# Altium footprint library PCB1.PcbLib: 38 footprints (part 1 of 3)
Each footprint in its own frame and in the unit in brackets; x right, y up, seen from the top. Pads: shape width x height; smd on the part's side, far side on the other; paste and mask are expansions set on the pad; w line width, h text height; cw(c..) or ccw(c..) is an arc to the next point about the centre after c.
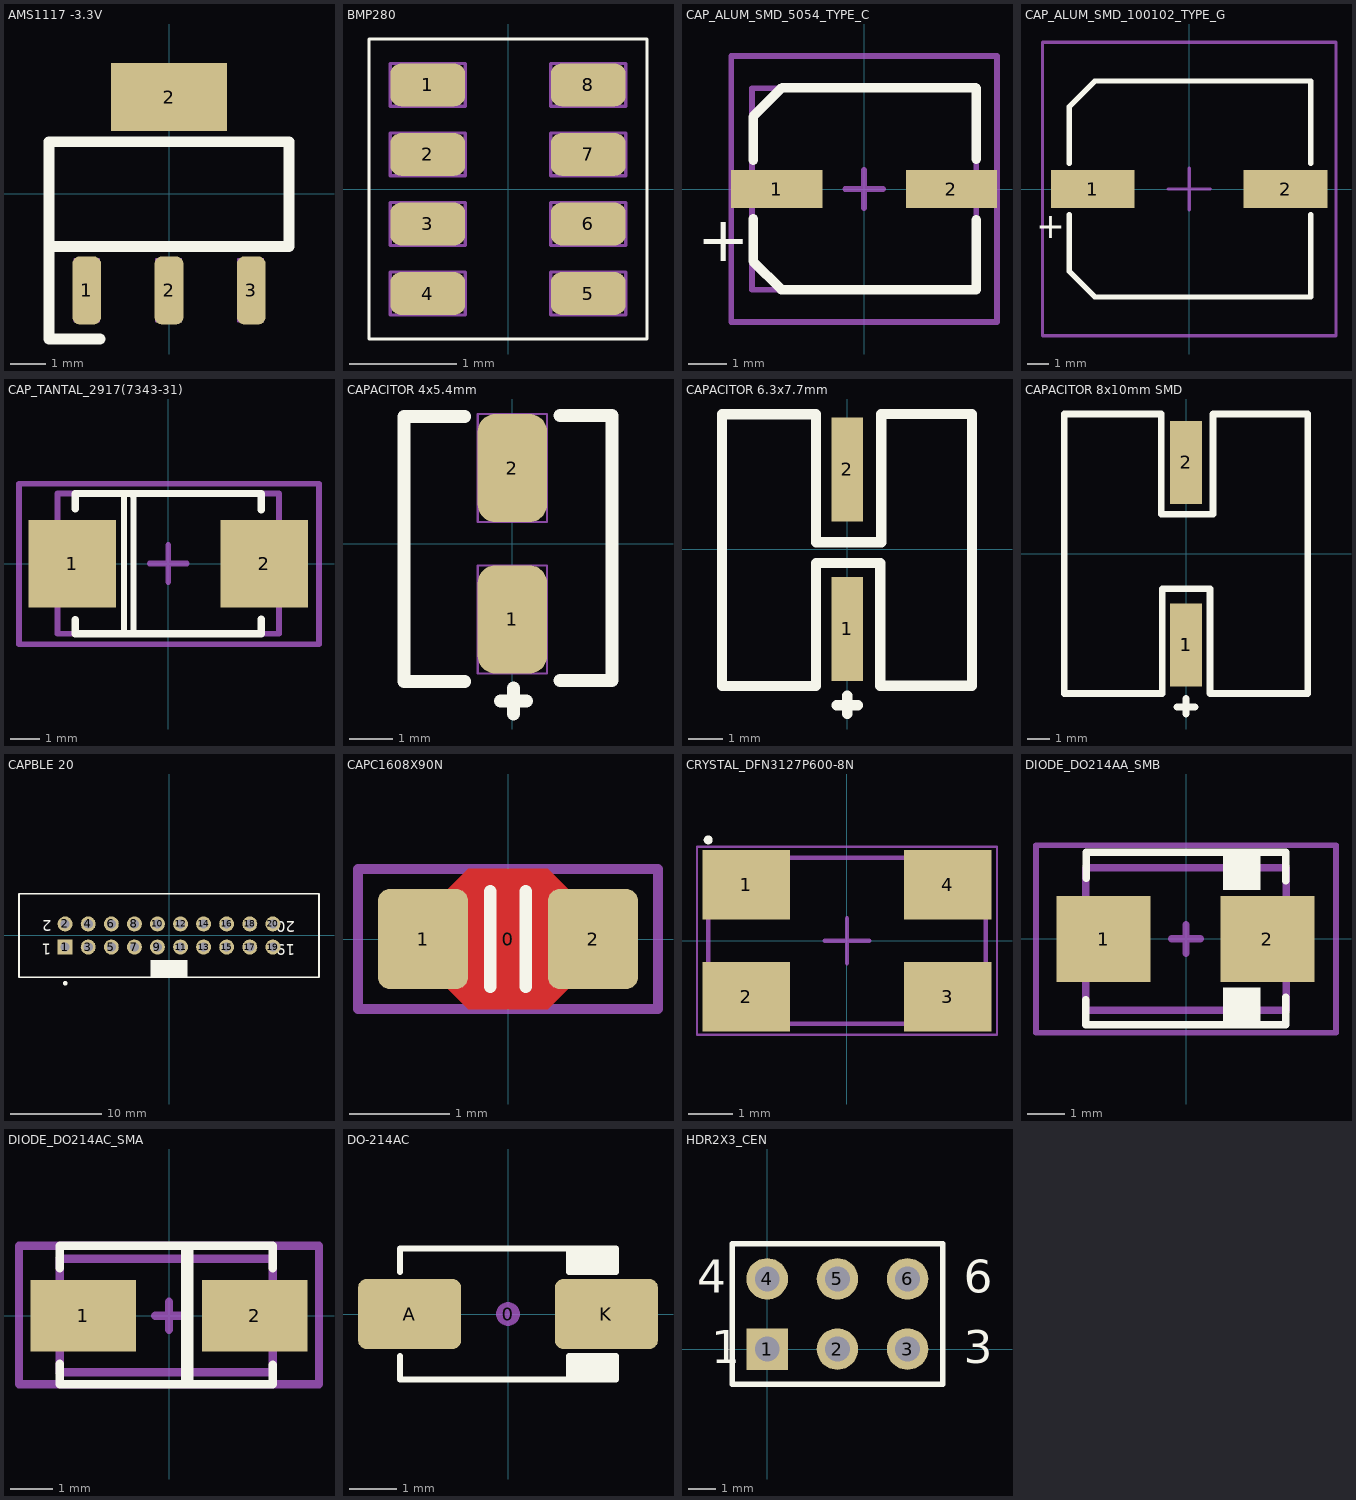
[diagram p0: the footprints below, top view; thin cyan lines are the x and y axes]

## AMS1117 -3.3V [mm]
pads (4):
  rrect50% 0.8x1.9 smd: 1(-2.3,-2.7) 2(0,-2.7) 3(2.3,-2.7)
  rect 3.25x1.9 smd: 2(0,2.7)
Top Overlay:
  lines w0.3: -3.355,-1.5 -3.355,-4.055 -3.353,-4.057 -1.929,-4.057 ; -3.355,-1.472 -3.355,1.452 -0.398,1.452 3.355,1.452 3.355,-1.472 -3.355,-1.472
Mechanical 1:
  lines w0.05: -2.475,-1.825 -1.95,-1.825 -1.95,-3.575 -2.65,-3.575 -2.65,-1.825 -2.3,-1.825 ; -0.185,-1.825 0.34,-1.825 0.34,-3.575 -0.36,-3.575 -0.36,-1.825 -0.01,-1.825 ; 0,3.542 1.4,3.542 1.4,1.832 -1.4,1.832 -1.4,3.543 0.35,3.543 ; 2.105,-1.825 2.63,-1.825 2.63,-3.575 1.93,-3.575 1.93,-1.825 2.28,-1.825
3D body "AMS1117-3.3.stp": height 1.8, standoff 0, extent -3.252,-3.5 3.253,3.5

## BMP280 [mm]
pads (8):
  rrect50% 0.7x0.4 smd: 1(-0.75,0.975) 2(-0.75,0.325) 3(-0.75,-0.325) 4(-0.75,-0.975) 5(0.75,-0.975) 6(0.75,-0.325) 7(0.75,0.325) 8(0.75,0.975)
Top Overlay:
  lines w0.03: -1.3,-1.4 1.3,-1.4 1.3,1.3 1.3,1.404 -1.3,1.404 -1.3,1.3 -1.3,-1.4
Mechanical 1:
  lines w0.03: 0.4,-1.175 0.4,-0.775 ; 0.4,-1.175 1.1,-1.175 ; 0.4,-1.175 0.4,-0.775 ; 0.4,-1.175 1.1,-1.175 ; 0.4,-0.775 1.1,-0.775 ; 0.4,-0.775 1.1,-0.775 ; 1.1,-1.175 1.1,-0.775 ; 1.1,-1.175 1.1,-0.775 ; -1.1,-1.175 -0.4,-1.175 -0.4,-0.775 -1.1,-0.775 -1.1,-1.175 ; -1.1,-0.525 -0.4,-0.525 -0.4,-0.125 -1.1,-0.125 -1.1,-0.525 ; -1.1,0.125 -0.4,0.125 -0.4,0.525 -1.1,0.525 -1.1,0.125 ; -1.1,0.775 -0.4,0.775 -0.4,1.175 -1.1,1.175 -1.1,0.775 ; 0.4,-0.525 0.4,-0.125 1.1,-0.125 1.1,-0.525 0.4,-0.525 ; 0.4,0.125 0.4,0.525 1.1,0.525 1.1,0.125 0.4,0.125 ; 0.4,0.775 0.4,1.175 1.1,1.175 1.1,0.775 0.4,0.775
3D body "bmp280.stp": height 1, standoff 0, extent -1,-1.25 1,1.25

## CAP_ALUM_SMD_5054_TYPE_C [mm]
pads (2):
  rect 2.4x1 smd: 1(-2.3,0) 2(2.3,0)
Top Overlay:
  lines w0.254: -2.921,-0.787 -2.921,-1.905 -2.176,-2.65 2.95,-2.65 2.95,-0.813 ; -2.921,0.762 -2.921,1.905 -2.159,2.667 2.932,2.667 ; 2.95,0.787 2.95,2.65
  text "+" at -4.4,-1.9 h1.2
Top 3D Body:
  lines w0.15: -0.5,0 0.5,0 ; 0,-0.5 0,0.5 ; -2.95,-2.65 2.95,-2.65 2.95,2.65 -2.95,2.65 -2.95,-2.65
Top Courtyard:
  lines w0.15: -3.5,-3.5 -3.5,3.5 3.5,3.5 3.5,-3.5 -3.5,-3.5
  text ".Designator" at -1,-0.6 h1.2
3D body "User Library-ALU-C.STEP": height 5.41, standoff 0, extent -2.95,-2.65 2.95,2.65

## CAP_ALUM_SMD_100102_TYPE_G [mm]
pads (2):
  rect 4x1.8 smd: 1(-4.6,0) 2(4.6,0)
Top Overlay:
  lines w0.254: -5.715,-1.219 -5.715,-3.937 -4.502,-5.15 5.8,-5.15 5.8,-1.219 ; -5.715,1.219 -5.715,3.937 -4.502,5.15 5.8,5.15 5.8,1.219
  text "+" at -7.308,-2.349 h1.2
Top 3D Body:
  lines w0.15: -1,0 1,0 ; 0,-1 0,1
Top Courtyard:
  lines w0.15: -7,-7 7,-7 7,7 -7,7 -7,-7
  text ".Designator" at -3.6,-0.6 h1.2
3D body "User Library-ALU-G.STEP": height 10.2, standoff 0, extent -5.8,-5.15 5.8,5.15

## CAP_TANTAL_2917(7343-31) [mm] "Chip capacitor, Body 6.0x3.2mm, IPC High Density"
height 0.9
pads (2):
  rect 3x3 smd: 1(-3.3,0) 2(3.3,0)
Top Overlay:
  lines w0.2: -1.525,-2.413 -1.525,2.413 ; -1.2,-2.375 -1.2,2.375
  lines w0.25: -3.2,-1.93 -3.2,-2.413 3.2,-2.413 3.2,-1.905 ; -3.2,1.88 -3.2,2.413 3.2,2.413 3.2,1.854 ; -1.25,2.375 -1.2,2.375
Top 3D Body:
  lines w0.2: -0.635,0 0.635,0 ; 0,-0.635 0,0.635 ; -3.81,-2.413 -3.81,2.413 3.81,2.413 3.81,-2.413 -3.81,-2.413
Top Courtyard:
  lines w0.2: -5.131,-2.769 -5.131,2.743 5.182,2.743 5.182,-2.769 -5.131,-2.769
  text ".Designator" at -2.819,-0.914 h1.2
3D body "User Library-CAP_TANT_7343-31.step": height 3.1, standoff 0, extent -3.8,-2.3 3.8,2.3

## CAPACITOR 4x5.4mm [mm]
pads (2):
  rrect50% 1.6x2.5 smd: 1(0,-1.75) 2(0,1.75)
Top Overlay:
  lines w0.3: -1.1,-3.189 -2.5,-3.189 -2.5,2.945 -1.1,2.945 ; -0.273,-3.637 0.327,-3.637 ; 0.027,-3.937 0.027,-3.337 ; 1.1,-3.164 2.3,-3.164 2.3,2.968 1.1,2.968
Mechanical 1:
  lines w0.05: -0.8,-3 -0.8,-0.5 0.8,-0.5 0.8,-3 -0.8,-3 ; -0.8,0.5 0.8,0.5 0.8,3 -0.8,3 -0.8,0.5
3D body "EEEFP1E100AR.stp": height 5.8, standoff 0, extent -2.25,-2.5 2.05,2.5

## CAPACITOR 6.3x7.7mm [mm]
pads (2):
  rect 0.9x3 smd: 1(0,-2.3) 2(0,2.3)
Top Overlay:
  lines w0.3: -0.3,-4.5 0.3,-4.5 ; 0,-4.755 0,-4.233 ; 0,-4.5 0,-4.3 ; -3.612,-3.948 -0.9,-3.948 -0.9,-0.5 -0.9,-0.399 -0.899,-0.4 0.957,-0.4 0.957,-3.945 3.6,-3.945 3.6,3.9 0.978,3.9 0.978,0.2 -0.9,0.2 -0.9,3.898 -3.612,3.898 -3.612,-3.948
3D body "User Library-User Library-CAP_Al_SMD_6_3x7_7mm.STEP": height 7.7, standoff 0, extent -3.3,-3.65 3.3,3.65

## CAPACITOR 8x10mm SMD [mm]
pads (3):
  rect 1.4x3.7 smd: 1(0,-4.05) 1(0,-4.05) 2(0,4.05)
Top Overlay:
  lines w0.3: -0.4,-6.8 0.4,-6.8 ; 0,-7.113 0,-6.428 ; 0,-6.8 0,-6.6 ; -5.4,-6.2 -1.053,-6.2 -1.053,-2.403 -1.054,-2.402 -1.054,-1.55 1.071,-1.55 1.071,-6.2 5.4,-6.2 5.4,6.2 1.2,6.2 1.2,1.75 -1.1,1.75 -1.1,6.2 -5.4,6.2 -5.4,-6.2
3D body "EEE1EA331AP.stp": height 10.3, standoff 0.1, extent -5.15,-5.85 5.15,5.85

## CAPBLE 20 [mm]
height 2.54
pads (20):
  rect 1.65x1.65 hole 1: 1(-11.43,-1.27)
  round 1.65 hole 1: 2(-11.43,1.27) 3(-8.89,-1.27) 4(-8.89,1.27) 5(-6.35,-1.27) 6(-6.35,1.27) 7(-3.81,-1.27) 8(-3.81,1.27) 9(-1.27,-1.27) 10(-1.27,1.27) 11(1.27,-1.27) 12(1.27,1.27) 13(3.81,-1.27) 14(3.81,1.27) 15(6.35,-1.27) 16(6.35,1.27) 17(8.89,-1.27) 18(8.89,1.27) 19(11.43,-1.27) 20(11.43,1.27)
Top Overlay:
  circle w0.25: c-11.43,-5.25 r0.125
  rectangle: -2.051,-4.6 2.049,-2.7
  lines w0.2: -16.51,-4.6 -16.51,4.6 16.51,4.6 16.51,-4.6 -16.51,-4.6
  text "2" at -12.903,1.651 h1.2
  text "1" at -12.954,-0.914 h1.2
  text "20" at 13.919,1.549 h1.2
  text "19" at 13.919,-0.965 h1.2
3D body "User Library-IDC Socket Male 20pin Straight THT Goldplated 2_54mm.STEP": height 8.92, standoff -3.48, extent -16.485,-4.267 16.515,4.583

## CAPC1608X90N [mm] "Chip Capacitor, Body 1.6x0.8mm, EIA 0603, IPC Medium Density"
height 0.9
pads (3):
  round 0.254 on Mech15: 0(0,0)
  rrect25% 0.9x1 smd: 1(-0.85,0) 2(0.85,0)
Top Layer:
  pour cut-out: -0.6,0.5 -0.4,0.7 0.4,0.7 0.6,0.5 0.6,-0.5 0.4,-0.7 -0.4,-0.7 -0.6,-0.5
Top Overlay:
  lines w0.127: -0.178,-0.476 -0.178,0.476 ; 0.178,-0.476 0.178,0.476
Mechanical 13:
  lines w0.05: -0.55,-0.43 0.55,-0.43 ; -0.55,0.43 0.55,0.43 ; -0.85,-0.45 -0.85,0.45 -0.55,0.45 -0.55,-0.45 -0.85,-0.45 ; 0.55,-0.45 0.55,0.45 0.85,0.45 0.85,-0.45 0.55,-0.45
Top Courtyard:
  lines w0.1: -1.5,-0.7 -1.5,0.7 1.5,0.7 1.5,-0.7 -1.5,-0.7
3D body "CAP_0603.STEP": height 0.89, standoff -0.01, extent -0.85,-0.45 0.85,0.45

## CAPC-0603 (1608) [mm] "Resistor, Chip; 1.60 mm L X 0.80 mm W X 0.50 mm H body"
height 0.5

## CRYSTAL_DFN3127P600-8N [mm]
height 1.1
pads (4):
  rect 1.95x1.55 smd: 1(-2.25,1.25) 2(-2.25,-1.25) 3(2.25,-1.25) 4(2.25,1.25)
Top Overlay:
  circle w0.1: c-3.1,2.25 r0.05
Mechanical 1:
  lines w0.1: -3.1,-1.85 3.1,-1.85 3.1,1.85 -3.1,1.85 -3.1,-1.85
Top Courtyard:
  lines w0.05: -3.35,-2.1 3.35,-2.1 3.35,2.1 -3.35,2.1 -3.35,-2.1
  lines w0.1: -0.5,0 0.5,0 ; 0,-0.5 0,0.5
3D body "DFN3127P600-8N.step": height 1.1, standoff 0, extent -3.1,-1.95 3.9,1.95

## DIODE_DO214AA_SMB [mm] "DIODE_DO214AA_SMB type"
pads (2):
  rect 2.5x2.3 smd: 1(-2.198,0) 2(2.173,0)
Top Overlay:
  rectangle: 0.987,-2.312 1.987,-1.3
  rectangle: 0.987,1.3 1.987,2.311
  lines w0.2: -2.68,-1.626 -2.68,-2.286 2.654,-2.286 2.654,-1.549 ; -2.654,1.626 -2.654,2.311 2.654,2.311 2.654,1.549
Top 3D Body:
  lines w0.2: -0.381,0 0.381,0 ; 0,-0.381 0,0.381 ; -2.667,-1.905 -2.667,1.905 2.667,1.905 2.667,-1.905 -2.667,-1.905
Top Courtyard:
  lines w0.15: -4,-2.5 4,-2.5 4,2.5 -4,2.5 -4,-2.5
  text ".Designator" at -2.388,-0.381 h1.2
3D body "User Library-DO-214AA_SMB.STEP": height 2.3, standoff 0.05, extent -2.675,-1.85 2.625,1.85

## DIODE_DO214AC_SMA [mm] "Diode 2214AC- SMA type"
pads (2):
  rect 2.5x1.7 smd: 1(-2.032,0) 2(2.032,0)
Top Overlay:
  rectangle: 0.279,-1.626 0.584,1.702
  lines w0.2: -2.591,-1.143 -2.591,-1.626 2.464,-1.626 2.464,-1.168 ; -2.591,1.118 -2.591,1.651 2.464,1.651 2.464,1.118
Top 3D Body:
  lines w0.2: -0.33,0 0.33,0 ; 0,-0.33 0,0.33 ; -2.591,-1.346 2.463,-1.346 2.463,1.346 -2.591,1.346 -2.591,-1.346
Top Courtyard:
  lines w0.2: -3.556,-1.626 -3.556,1.651 3.556,1.651 3.556,-1.626 -3.556,-1.626
  text ".Designator" at -3.099,-0.584 h1.2
3D body "User Library-DO-214AC_SMA.STEP": height 2.25, standoff 0.05, extent -2.528,-1.35 2.472,1.35

## DO-214AC [mm] "JEDEC DO214 variation AC. SMA"
height 2.5
pads (3):
  round 0.508 on Mech15: 0(0,0)
  rrect25% 2.2x1.5 smd: A(-2.1,0) K(2.1,0)
Top Overlay:
  rectangle: 1.3,-1.4 2.3,-0.9
  rectangle: 1.3,0.9 2.3,1.4
  lines w0.127: -2.3,-0.9 -2.3,-1.4 2.3,-1.4 2.3,-0.9 1.3,-0.9 1.3,-1.4 ; -2.3,0.9 -2.3,1.4 2.3,1.4 2.3,0.9 1.3,0.9 ; 1.3,0.911 1.3,1.4
3D body "SW3dPS-DO-214AC SMA.STEP": height 2.42, standoff 0.02, extent -2.6,-1.3 2.6,1.3

## HDR2X3_CEN [mm] "Connector; Header; 3x2 Position"
pads (6):
  rect 1.5x1.5 hole 0.9: 1(0,0)
  round 1.5 hole 0.9: 2(2.54,0) 3(5.08,0) 4(0,2.54) 5(2.54,2.54) 6(5.08,2.54)
Top Overlay:
  lines w0.2: -1.27,-1.27 6.35,-1.27 6.35,3.81 -1.27,3.81 -1.27,-1.27
  text "6" at 7.112,2.032 h1.2
  text "3" at 7.112,-0.508 h1.2
  text "1" at -2.032,-0.508 h1.2
  text "4" at -2.54,2.032 h1.2
3D body: height 7, standoff -1, extent 4.688,-0.406 5.486,0.39
3D body: height 7, standoff -1, extent 4.688,2.134 5.486,2.93
3D body: height 7, standoff -1, extent 2.148,-0.406 2.946,0.39
3D body: height 7, standoff -1, extent 2.148,2.134 2.946,2.93
3D body: height 7, standoff -1, extent -0.392,-0.406 0.406,0.39
3D body: height 7, standoff -1, extent -0.392,2.134 0.406,2.93
3D body: height 1.5, standoff 0, extent -1.27,-1.27 1.27,1.27
3D body: height 1.5, standoff 0, extent 1.27,-1.27 3.81,1.27
3D body: height 1.5, standoff 0, extent 3.81,-1.27 6.35,1.27
3D body: height 1.5, standoff 0, extent 3.81,1.27 6.35,3.81
3D body: height 1.5, standoff 0, extent 1.27,1.27 3.81,3.81
3D body: height 1.5, standoff 0, extent -1.27,1.27 1.27,3.81